# Altium footprint library X2QFN40P165X165X-12.PcbLib: 1 footprints
Each footprint in its own frame and in the unit in brackets; x right, y up, seen from the top. Pads: shape width x height; smd on the part's side, far side on the other; paste and mask are expansions set on the pad; w line width, h text height; cw(c..) or ccw(c..) is an arc to the next point about the centre after c.
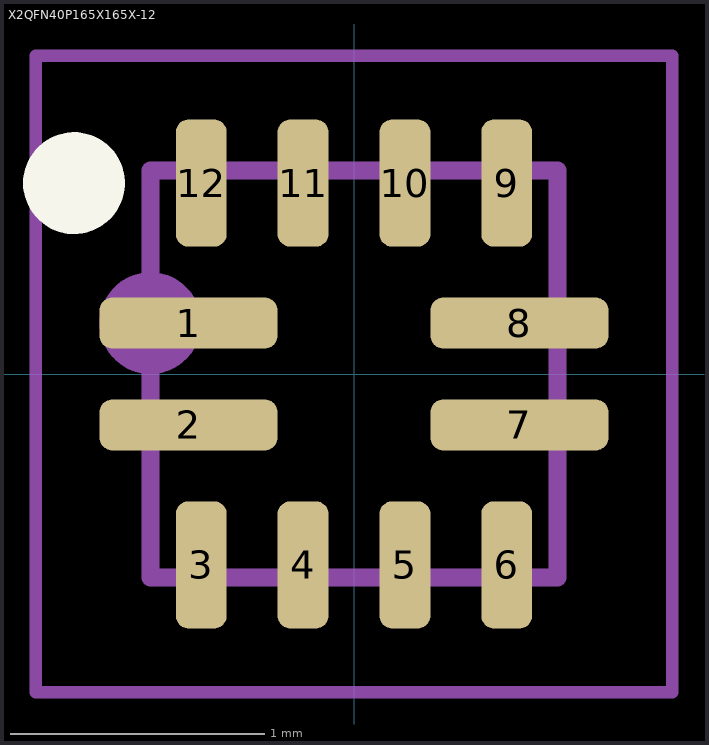
[diagram p0: the footprint, top view; thin cyan lines are the x and y axes]

## X2QFN40P165X165X-12 [mm]
pads (12):
  rrect50% 0.7x0.2 smd paste-1 mask+0.04: 1(-0.65,0.2) 2(-0.65,-0.2) 7(0.65,-0.2) 8(0.65,0.2)
  rrect50% 0.2x0.5 smd mask+0.04: 3(-0.6,-0.75) 4(-0.2,-0.75) 5(0.2,-0.75) 6(0.6,-0.75) 9(0.6,0.75) 10(0.2,0.75) 11(-0.2,0.75)
  rrect50% 0.2x0.5 smd mask+0.05: 12(-0.6,0.75)
Top Overlay:
  circle w0.2: c-1.1,0.75 r0.1
Top Paste:
  drawing of 4 lines, arcs and shapes, not listed
Top Courtyard:
  lines w0.05: -1.25,-1.25 1.25,-1.25 1.25,1.25 -1.25,1.25 -1.25,-1.25
Top Assembly:
  circle w0.2: c-0.8,0.2 r0.1
  lines w0.07: -0.8,-0.8 -0.8,0.8 0.8,0.8 0.8,-0.8 -0.8,-0.8
  text "'.Designator'" at -0.631,-0.025 h0.1
3D body: height 0.59, standoff -0.01, extent -0.83,-0.83 0.82,0.82